# EAGLE library part FPC-42WAY (library pimoroni-fpc)
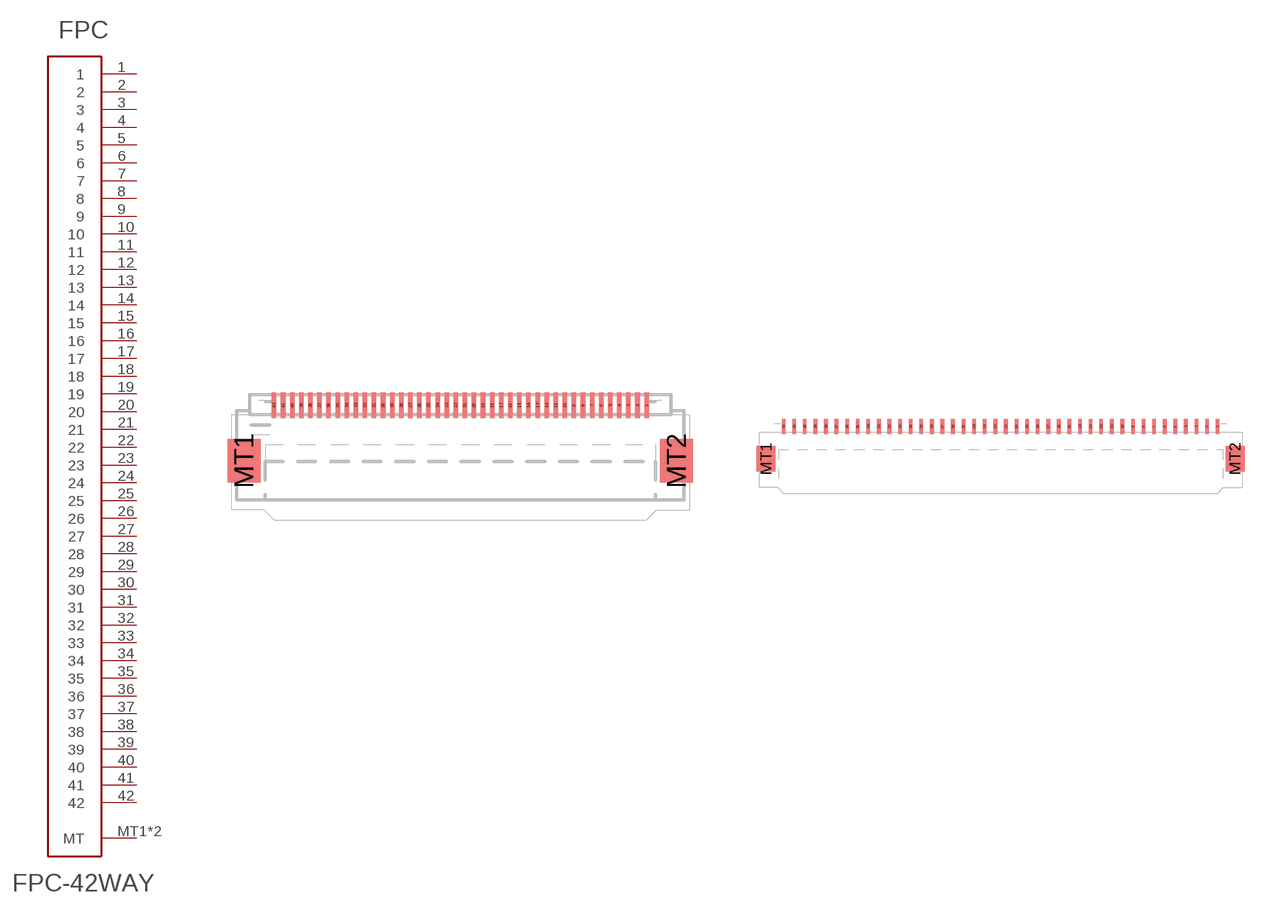
[diagram p37: symbol with the pads of FPC-0.5MM-42WAY; footprints FPC-0.5MM-42WAY, FPC-1.0MM-42WAY]

Designator prefix FPC

## FPC-42WAY0.5  [FPC-0.5MM-42WAY]
1  1
2  2
3  3
4  4
5  5
6  6
7  7
8  8
9  9
10  10
11  11
12  12
13  13
14  14
15  15
16  16
17  17
18  18
19  19
20  20
21  21
22  22
23  23
24  24
25  25
26  26
27  27
28  28
29  29
30  30
31  31
32  32
33  33
34  34
35  35
36  36
37  37
38  38
39  39
40  40
41  41
42  42
MT1  MT
MT2  MT

## FPC-42WAY1.0  [FPC-1.0MM-42WAY]
Pads as for FPC-0.5MM-42WAY

## Footprint FPC-0.5MM-42WAY (pad centres in mm)
smd 0.25 x 1.4: 1 10.25,0.7; 2 9.75,0.7; 3 9.25,0.7; 4 8.75,0.7; 5 8.25,0.7; 6 7.75,0.7; 7 7.25,0.7; 8 6.75,0.7; 9 6.25,0.7; 10 5.75,0.7; 11 5.25,0.7; 12 4.75,0.7; 13 4.25,0.7; 14 3.75,0.7; 15 3.25,0.7; 16 2.75,0.7; 17 2.25,0.7; 18 1.75,0.7; 19 1.25,0.7; 20 0.75,0.7; 21 0.25,0.7; 22 -0.25,0.7; 23 -0.75,0.7; 24 -1.25,0.7; 25 -1.75,0.7; 26 -2.25,0.7; 27 -2.75,0.7; 28 -3.25,0.7; 29 -3.75,0.7; 30 -4.25,0.7; 31 -4.75,0.7; 32 -5.25,0.7; 33 -5.75,0.7; 34 -6.25,0.7; 35 -6.75,0.7; 36 -7.25,0.7; 37 -7.75,0.7; 38 -8.25,0.7; 39 -8.75,0.7; 40 -9.25,0.7; 41 -9.75,0.7; 42 -10.25,0.7
smd 1.8 x 2.4: MT1 -11.9,-2.35; MT2 11.9,-2.35

## Footprint FPC-1.0MM-42WAY (pad centres in mm)
smd 0.35 x 1.4: 1 20.5,0.7; 2 19.5,0.7; 3 18.5,0.7; 4 17.5,0.7; 5 16.5,0.7; 6 15.5,0.7; 7 14.5,0.7; 8 13.5,0.7; 9 12.5,0.7; 10 11.5,0.7; 11 10.5,0.7; 12 9.5,0.7; 13 8.5,0.7; 14 7.5,0.7; 15 6.5,0.7; 16 5.5,0.7; 17 4.5,0.7; 18 3.5,0.7; 19 2.5,0.7; 20 1.5,0.7; 21 0.5,0.7; 22 -0.5,0.7; 23 -1.5,0.7; 24 -2.5,0.7; 25 -3.5,0.7; 26 -4.5,0.7; 27 -5.5,0.7; 28 -6.5,0.7; 29 -7.5,0.7; 30 -8.5,0.7; 31 -9.5,0.7; 32 -10.5,0.7; 33 -11.5,0.7; 34 -12.5,0.7; 35 -13.5,0.7; 36 -14.5,0.7; 37 -15.5,0.7; 38 -16.5,0.7; 39 -17.5,0.7; 40 -18.5,0.7; 41 -19.5,0.7; 42 -20.5,0.7
smd 1.8 x 2.4: MT1 -22.15,-2.35; MT2 22.15,-2.35